# EAGLE library part TC7WU04FU (library my_ic)
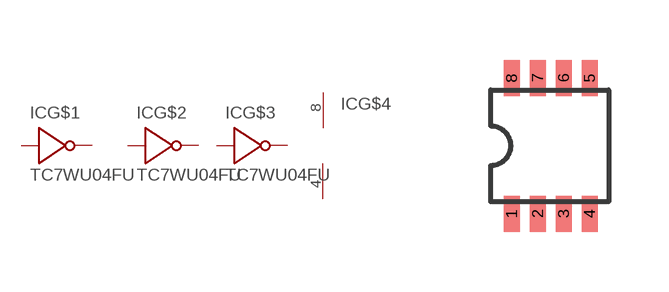
[diagram p14: symbol with the pads of SSOP8-P-0.65; footprint SSOP8-P-0.65]

Designator prefix IC; gates G$1=NOT G$2=NOT G$3=NOT G$4=PWR+-

## TC7WU04FU  [SSOP8-P-0.65]
1  G$1:P$1  in
2  G$2:P$2  out
3  G$3:P$1  in
4  G$4:V-  pwr
5  G$3:P$2  out
6  G$2:P$1  in
7  G$1:P$2  out
8  G$4:V+  pwr

## Footprint SSOP8-P-0.65 (pad centres in mm)
smd 0.4 x 0.9: 1 -0.975,-1.7; 2 -0.325,-1.7; 3 0.325,-1.7; 4 0.975,-1.7; 5 0.975,1.7; 6 0.325,1.7; 7 -0.325,1.7; 8 -0.975,1.7